# Altium integrated library Analog Devices Data Converters Digital-to-Analog Converters.IntLib: 2231 symbols (part 101 of 181)
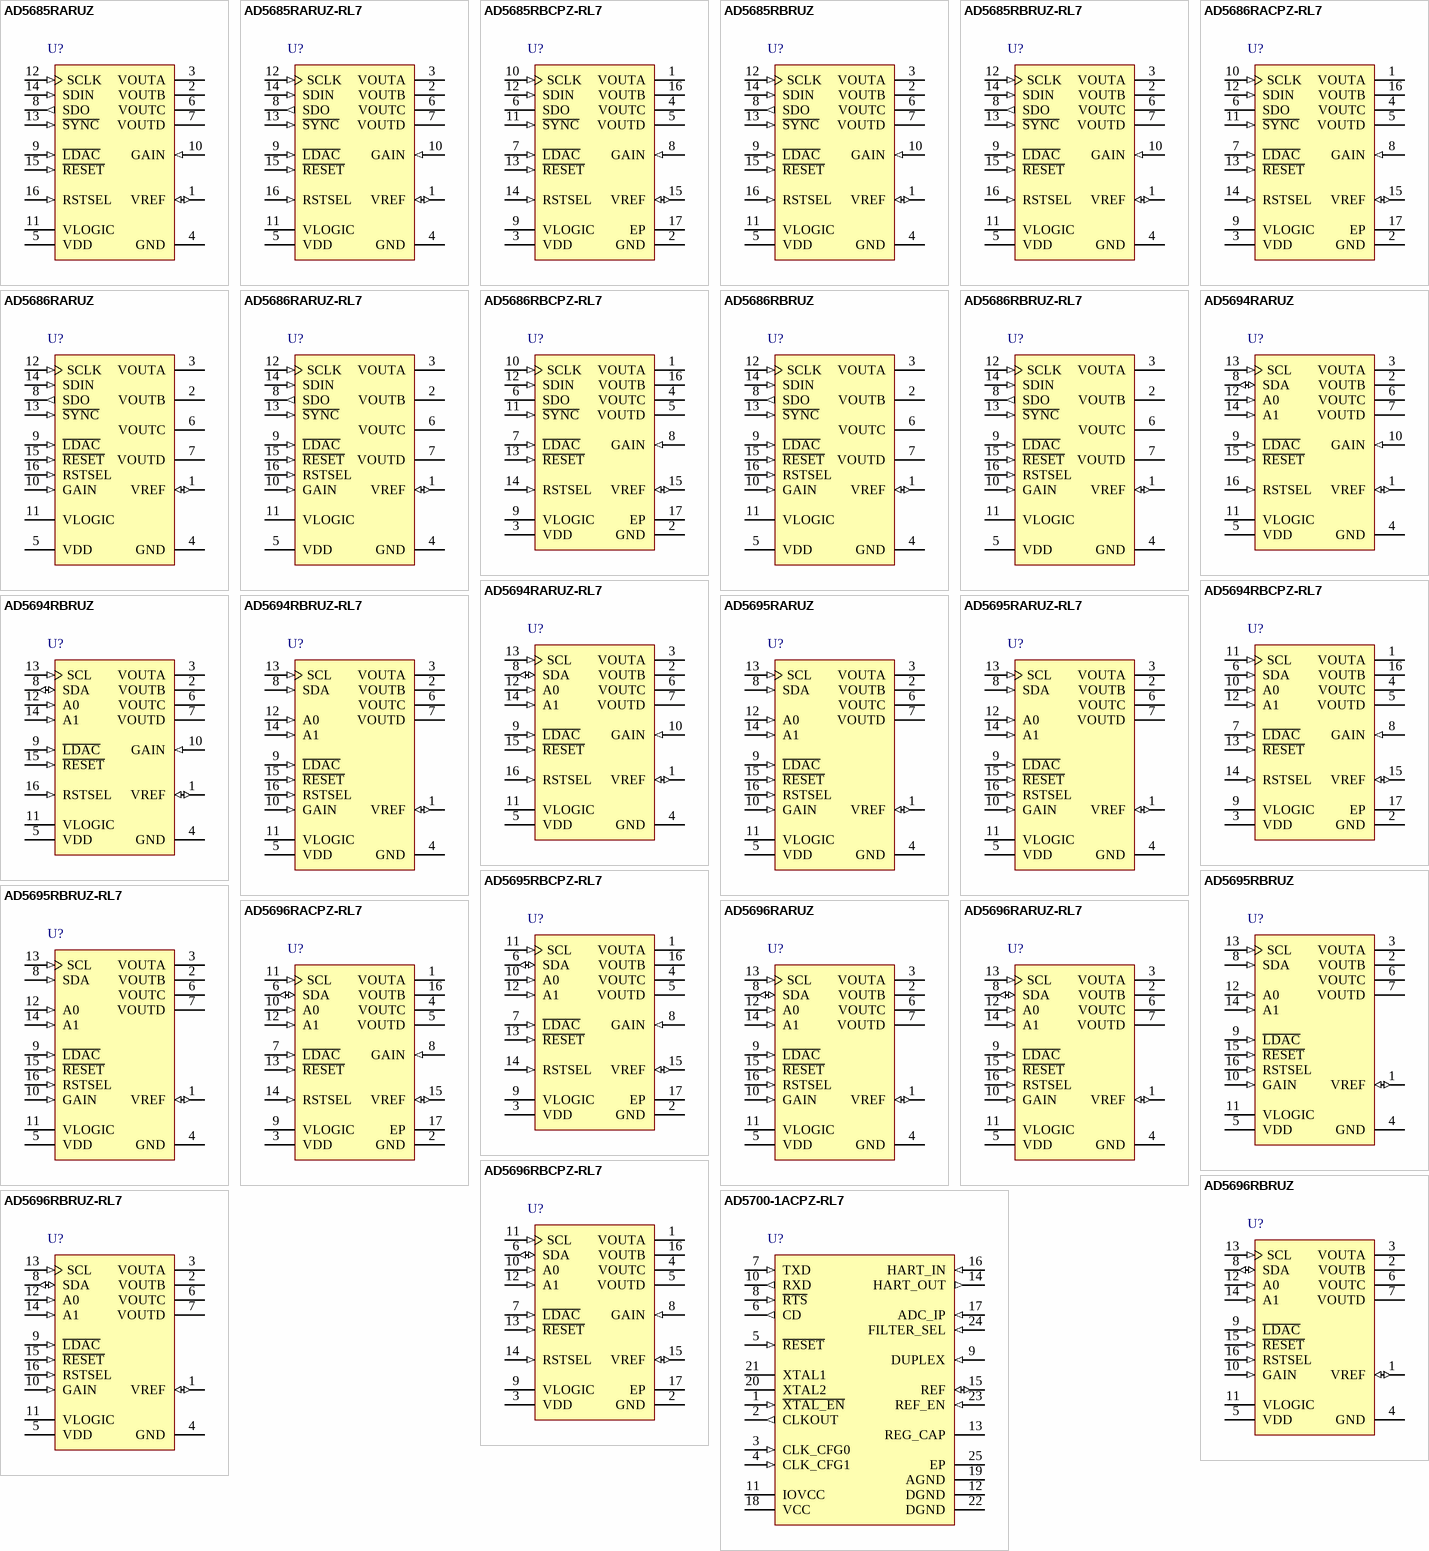
[diagram p214: symbols AD5685RARUZ to AD5700-1ACPZ-RL7]

## AD5696RBRUZ
designator U?
Quad 16-Bit nanoDAC+ with I2C Interface and 2 ppm/degC On-Chip Reference, -40 to +105 degC, RU-16, Pb-Free, Tube; Generic Part Number: AD5696R; Manufacturer: Analog Devices; PartNumber: AD5696RBRUZ; # DAC Outputs: 4; Max V+: 5.5V; Resolution (Bits): 16; Settling Time: 5µs; Single Supply: Yes; DatasheetVersion: Rev.0; PackageVersion: Nov-2002; PackageReference: RU-16; PackageDescription: 16-Lead Thin Shrink Small Outline Package [TSSOP]; Supplier 1: Digi-Key; Supplier Part Number 1: AD5696RBRUZ-ND; Supplier 2: Farnell; Supplier Part Number 2: 2112669; Supplier 3: Newark; Supplier Part Number 3: 94T0052; Supplier 4: Mouser; Supplier Part Number 4: 584-AD5696RBRUZ; Packing: Tube; RoHS: Y; Mounting Technology: Surface Mount; Code_JEDEC: MO-153-AB; ComponentLink1Description: Manufacturer URL; ComponentLink1URL: http://www.analog.com/en/index.html; ComponentLink2Description: Datasheet; ComponentLink2URL: http://www.analog.com/static/imported-files/data_sheets/AD5696R_AD5695R_AD5694R.pdf; ComponentLink3Description: Package Specification; ComponentLink3URL: http://www.analog.com/static/imported-files/packages/36244347913743854010197452789RU16.pdf; ComponentLink4Description: Product URL; ComponentLink4URL: http://www.analog.com/en/digital-to-analog-converters/da-converters/ad5696r/products/product.html
footprint RU-16_N (TSOP, 16-Leads, Body 5x4.4mm, Pitch 0.65mm, IPC Medium Density)
footprint RU-16_L (TSOP, 16-Leads, Body 5x4.4mm, Pitch 0.65mm, IPC High Density)
footprint RU-16_M (TSOP, 16-Leads, Body 5x4.4mm, Pitch 0.65mm, IPC Low Density)
pins: 1 VREF (io) "Reference Voltage. The AD5696R have a common reference pin. When using the internal reference, this is the reference output pin. When using an external reference, this is the reference input pin. The default for this pin is (See Datasheet)", 2 VOUTB (hiz) "Analog Output Voltage from DAC B. The output amplifier has rail-to-rail operation.", 3 VOUTA (hiz) "Analog Output Voltage from DAC A. The output amplifier has rail-to-rail operation.", 4 GND (power) "Ground Reference Point for All Circuitry on the Part.", 5 VDD (power) "Power Supply Input. These parts can be operated from 2.7 V to 5.5 V, and the supply should be decoupled with a 10 uF capacitor in parallel with a 0.1 uF capacitor to GND.", 6 VOUTC (hiz) "Analog Output Voltage from DAC C. The output amplifier has rail-to-rail operation.", 7 VOUTD (hiz) "Analog Output Voltage from DAC D. The output amplifier has rail-to-rail operation.", 8 SDA (io) "Serial Data Input. This pin is used in conjunction with the SCL line to clock data into or out of the 24-bit input shift register. SDA is a bidirectional, open-drain data line that should be pulled to the supply with an (See Datasheet)", 9 ~{LDAC} (in) "L\D\A\C\ can be operated in two modes, asynchronously and synchronously. Pulsing this pin low allows any or all DAC registers to be updated if the input registers have new data. This allows all DAC outputs to simultaneously (See Datasheet)", 10 GAIN (in) "Span Set Pin. When this pin is tied to GND, all four DAC outputs have a span from 0 V to VREF. If this pin is tied to VDD, all four DACs output a span of 0 V to 2 x VREF.", 11 VLOGIC (power) "Digital Power Supply. Voltage ranges from 1.8 V to 5.5 V.", 12 A0 (in) "Address Input. Sets the first LSB of the 7-bit slave address.", 13 SCL (in) "Serial Clock Line. This is used in conjunction with the SDA line to clock data into or out of the 24-bit input register.", 14 A1 (in) "Address Input. Sets the second LSB of the 7-bit slave address.", 15 ~{RESET} (in) "Asynchronous Reset Input. The R\E\S\E\T\ input is falling edge sensitive. When R\E\S\E\T\ is low, all L\D\A\C\ pulses are ignored. When R\E\S\E\T\ is activated, the input register and the DAC register are updated with zero (See Datasheet)", 16 RSTSEL (in) "Power-On Reset Pin. Tying this pin to GND powers up all four DACs to zero scale. Tying this pin to VDD powers up all four DACs to midscale."

## AD5696RBRUZ-RL7
designator U?
Quad 16-Bit nanoDAC+ with I2C Interface and 2 ppm/degC On-Chip Reference, -40 to +105 degC, RU-16, Pb-Free, Reel; Generic Part Number: AD5696R; Manufacturer: Analog Devices; PartNumber: AD5696RBRUZ-RL7; # DAC Outputs: 4; Max V+: 5.5V; Resolution (Bits): 16; Settling Time: 5µs; Single Supply: Yes; DatasheetVersion: Rev.0; PackageVersion: Nov-2002; PackageReference: RU-16; PackageDescription: 16-Lead Thin Shrink Small Outline Package [TSSOP]; Supplier 1: Digi-Key; Supplier Part Number 1: AD5696RBRUZ-RL7-ND; Supplier 2: Mouser; Supplier Part Number 2: 584-AD5696RBRUZ-R7; Packing: Reel; RoHS: Y; Mounting Technology: Surface Mount; Code_JEDEC: MO-153-AB; ComponentLink1Description: Manufacturer URL; ComponentLink1URL: http://www.analog.com/en/index.html; ComponentLink2Description: Datasheet; ComponentLink2URL: http://www.analog.com/static/imported-files/data_sheets/AD5696R_AD5695R_AD5694R.pdf; ComponentLink3Description: Package Specification; ComponentLink3URL: http://www.analog.com/static/imported-files/packages/36244347913743854010197452789RU16.pdf; ComponentLink4Description: Product URL; ComponentLink4URL: http://www.analog.com/en/digital-to-analog-converters/da-converters/ad5696r/products/product.html
footprint RU-16_N (TSOP, 16-Leads, Body 5x4.4mm, Pitch 0.65mm, IPC Medium Density)
footprint RU-16_L (TSOP, 16-Leads, Body 5x4.4mm, Pitch 0.65mm, IPC High Density)
footprint RU-16_M (TSOP, 16-Leads, Body 5x4.4mm, Pitch 0.65mm, IPC Low Density)
pins: 1 VREF (io) "Reference Voltage. The AD5696R have a common reference pin. When using the internal reference, this is the reference output pin. When using an external reference, this is the reference input pin. The default for this pin is (See Datasheet)", 2 VOUTB (hiz) "Analog Output Voltage from DAC B. The output amplifier has rail-to-rail operation.", 3 VOUTA (hiz) "Analog Output Voltage from DAC A. The output amplifier has rail-to-rail operation.", 4 GND (power) "Ground Reference Point for All Circuitry on the Part.", 5 VDD (power) "Power Supply Input. These parts can be operated from 2.7 V to 5.5 V, and the supply should be decoupled with a 10 uF capacitor in parallel with a 0.1 uF capacitor to GND.", 6 VOUTC (hiz) "Analog Output Voltage from DAC C. The output amplifier has rail-to-rail operation.", 7 VOUTD (hiz) "Analog Output Voltage from DAC D. The output amplifier has rail-to-rail operation.", 8 SDA (io) "Serial Data Input. This pin is used in conjunction with the SCL line to clock data into or out of the 24-bit input shift register. SDA is a bidirectional, open-drain data line that should be pulled to the supply with an (See Datasheet)", 9 ~{LDAC} (in) "L\D\A\C\ can be operated in two modes, asynchronously and synchronously. Pulsing this pin low allows any or all DAC registers to be updated if the input registers have new data. This allows all DAC outputs to simultaneously (See Datasheet)", 10 GAIN (in) "Span Set Pin. When this pin is tied to GND, all four DAC outputs have a span from 0 V to VREF. If this pin is tied to VDD, all four DACs output a span of 0 V to 2 x VREF.", 11 VLOGIC (power) "Digital Power Supply. Voltage ranges from 1.8 V to 5.5 V.", 12 A0 (in) "Address Input. Sets the first LSB of the 7-bit slave address.", 13 SCL (in) "Serial Clock Line. This is used in conjunction with the SDA line to clock data into or out of the 24-bit input register.", 14 A1 (in) "Address Input. Sets the second LSB of the 7-bit slave address.", 15 ~{RESET} (in) "Asynchronous Reset Input. The R\E\S\E\T\ input is falling edge sensitive. When R\E\S\E\T\ is low, all L\D\A\C\ pulses are ignored. When R\E\S\E\T\ is activated, the input register and the DAC register are updated with zero (See Datasheet)", 16 RSTSEL (in) "Power-On Reset Pin. Tying this pin to GND powers up all four DACs to zero scale. Tying this pin to VDD powers up all four DACs to midscale."

## AD5700-1ACPZ-RL7
designator U?
Low Power HART Modem, -40 to +125 degC, CP-24-10, Pb-Free, Reel; Generic Part Number: AD5700-1; Manufacturer: Analog Devices; PartNumber: AD5700-1ACPZ-RL7; DatasheetVersion: Rev.A; PackageVersion: 072809A; PackageReference: CP-24-10; PackageDescription: 24-Lead Lead Frame Chip Scale Package [LFCSP_WQ] 4 x 4 mm Body, Very Very Thin Quad; Supplier 1: Digi-Key; Supplier Part Number 1: AD5700-1ACPZ-RL7TR-ND; Supplier 2: Digi-Key; Supplier Part Number 2: AD5700-1ACPZ-RL7CT-ND; Supplier 3: Digi-Key; Supplier Part Number 3: AD5700-1ACPZ-RL7DKR-ND; Supplier 4: Farnell; Supplier Part Number 4: 2084459; Supplier 5: Newark; Supplier Part Number 5: 92T3222; Supplier 6: Newark; Supplier Part Number 6: 90T1364; Supplier 7: Mouser; Supplier Part Number 7: 584-AD5700-1ACPZ-R7; Packing: Reel; RoHS: Y; Mounting Technology: Surface Mount; Code_JEDEC: MO-220-WGGD-8.; ComponentLink1Description: Manufacturer URL; ComponentLink1URL: http://www.analog.com/en/index.html; ComponentLink2Description: Datasheet; ComponentLink2URL: http://www.analog.com/static/imported-files/data_sheets/AD5700_5700-1.pdf; ComponentLink3Description: Package Specification; ComponentLink3URL: http://www.analog.com/static/imported-files/packages/PKG_PDF/LFCSP(CP)/CP_24_10.pdf; ComponentLink4Description: Product URL; ComponentLink4URL: http://search.analog.com/search/ProductSearch.aspx?query=ad5700-1&locale=en
footprint CP-24-10_N (QFN, 24-Leads, Body 4x4mm, Pitch 0.5mm, Thermal Pad 2.1x2.1mm, IPC Medium Density)
footprint CP-24-10_L (QFN, 24-Leads, Body 4x4mm, Pitch 0.5mm, Thermal Pad 2.1x2.1mm, IPC High Density)
footprint CP-24-10_M (QFN, 24-Leads, Body 4x4mm, Pitch 0.5mm, Thermal Pad 2.1x2.1mm, IPC Low Density)
pins: 1 ~{XTAL_EN} (in) "Crystal Oscillator Circuit Enable. A low state enables the crystal oscillator circuit, and an external crystal is required. A high state disables the crystal oscillator circuit, and an external clock source or the internal (See Datasheet)", 2 CLKOUT (out) "Clock Output. If using the crystal oscillator or the internal RC oscillator, a clock output can be configured at the CLKOUT pin. Enabling the clock output consumes extra current to drive the load on this pin. See the CLKOUT (See Datasheet)", 3 CLK_CFG0 (in) "Clock Configuration Control. See Table 7.", 4 CLK_CFG1 (in) "Clock Configuration Control. See Table 7.", 5 ~{RESET} (in) "Active Low Digital Input. Holding R\E\S\E\T\ low places the AD5700-1 in power-down mode. A high state on R\E\S\E\T\ returns the AD5700-1 to their power-on state. If not using this pin, tie this pin to IOVCC.", 6 CD (out) "Carrier Detect--Digital Output. A high on CD indicates a valid carrier is detected.", 7 TXD (in) "Transmit Data--Digital Input. Data input to the modulator.", 8 ~{RTS} (in) "Request to Send--Digital Input. A high state enables the demodulator and disables the modulator. A low state enables the modulator and disables the demodulator.", 9 DUPLEX (in) "A high state on this pin enables full duplex operation. See the Theory of Operation section. A low state disables this feature.", 10 RXD (out) "Receive Data--UART Interface Digital Data Output. Data output from the demodulator is accessed on this pin.", 11 IOVCC (power) "Digital Interface Supply. Digital threshold levels are referenced to the voltage applied to this pin. The applied voltage can be in the range of 1.71 V to 5.5 V.", 12 DGND (power) "Digital Circuitry Ground Reference Connection. For typical operation, it is recommended to connect this pin to AGND.", 13 REG_CAP "Capacitor Connection for Internal Voltage Regulator. Connect a 1 uF capacitor from this pin to ground.", 14 HART_OUT (out) "HART FSK Signal Output. See the FSK Modulator section and Figure 26 for typical connections.", 15 REF (io) "Internal Reference Voltage Output, or External 2.5 V Reference Voltage Input. Connect a 1 uF capacitor from this pin to ground. When supplying an external reference, the VCC supply requires a minimum voltage of 2.7 V.", 16 HART_IN (in) "HART FSK Signal. When using the internal filter, couple the HART input signal into this pin using a 2.2 nF series capacitor. If using an external band-pass filter as shown in Figure 21, do not connect to this pin.", 17 ADC_IP (in) "If using the internal band-pass filter, connect 680 pF to this pin. Alternatively, this pin allows direct connection to the ADC input, in which case an external band-pass filter network must be used, as shown in Figure 21.", 18 VCC (power) "Power Supply Input. 2 V to 5.5 V can be applied to this pin. VCC should be decoupled to ground with low ESR 10 uF and 0.1 uF capacitors (see the Supply Decoupling section).", 19 AGND (power) "Analog Circuitry Ground Reference Connection.", 20 XTAL2 "Connection for External 3.6864 MHz Crystal. Do not connect to this pin if using the internal RC oscillator (AD5700-1 only) or an external clock source.", 21 XTAL1 "Connection for External 3.6864 MHz Crystal or External Clock Source Input. Tie this pin to ground if using the internal RC oscillator (AD5700-1 only).", 22 DGND (power) "Digital Circuitry Ground Reference Connection. For typical operation, it is recommended to connect this pin to", 23 REF_EN (in) "Reference Enable. A high state enables the internal 1.5 V reference and buffer. A low state disables the internal reference and input buffer, and a buffered external 2.5 V reference source must be applied at REF. If REF_EN (See Datasheet)", 24 FILTER_SEL (in) "Band-Pass Filter Select. A high state enables the internal filter and the HART signal should be applied to the HART_IN pin. A low state disables the internal filter and an external band-pass filter must then be connected at (See Datasheet)", 25 EP (power) "Analog Ground Reference Connection. For typical operation, it is recommended to connect this pin to AGND."

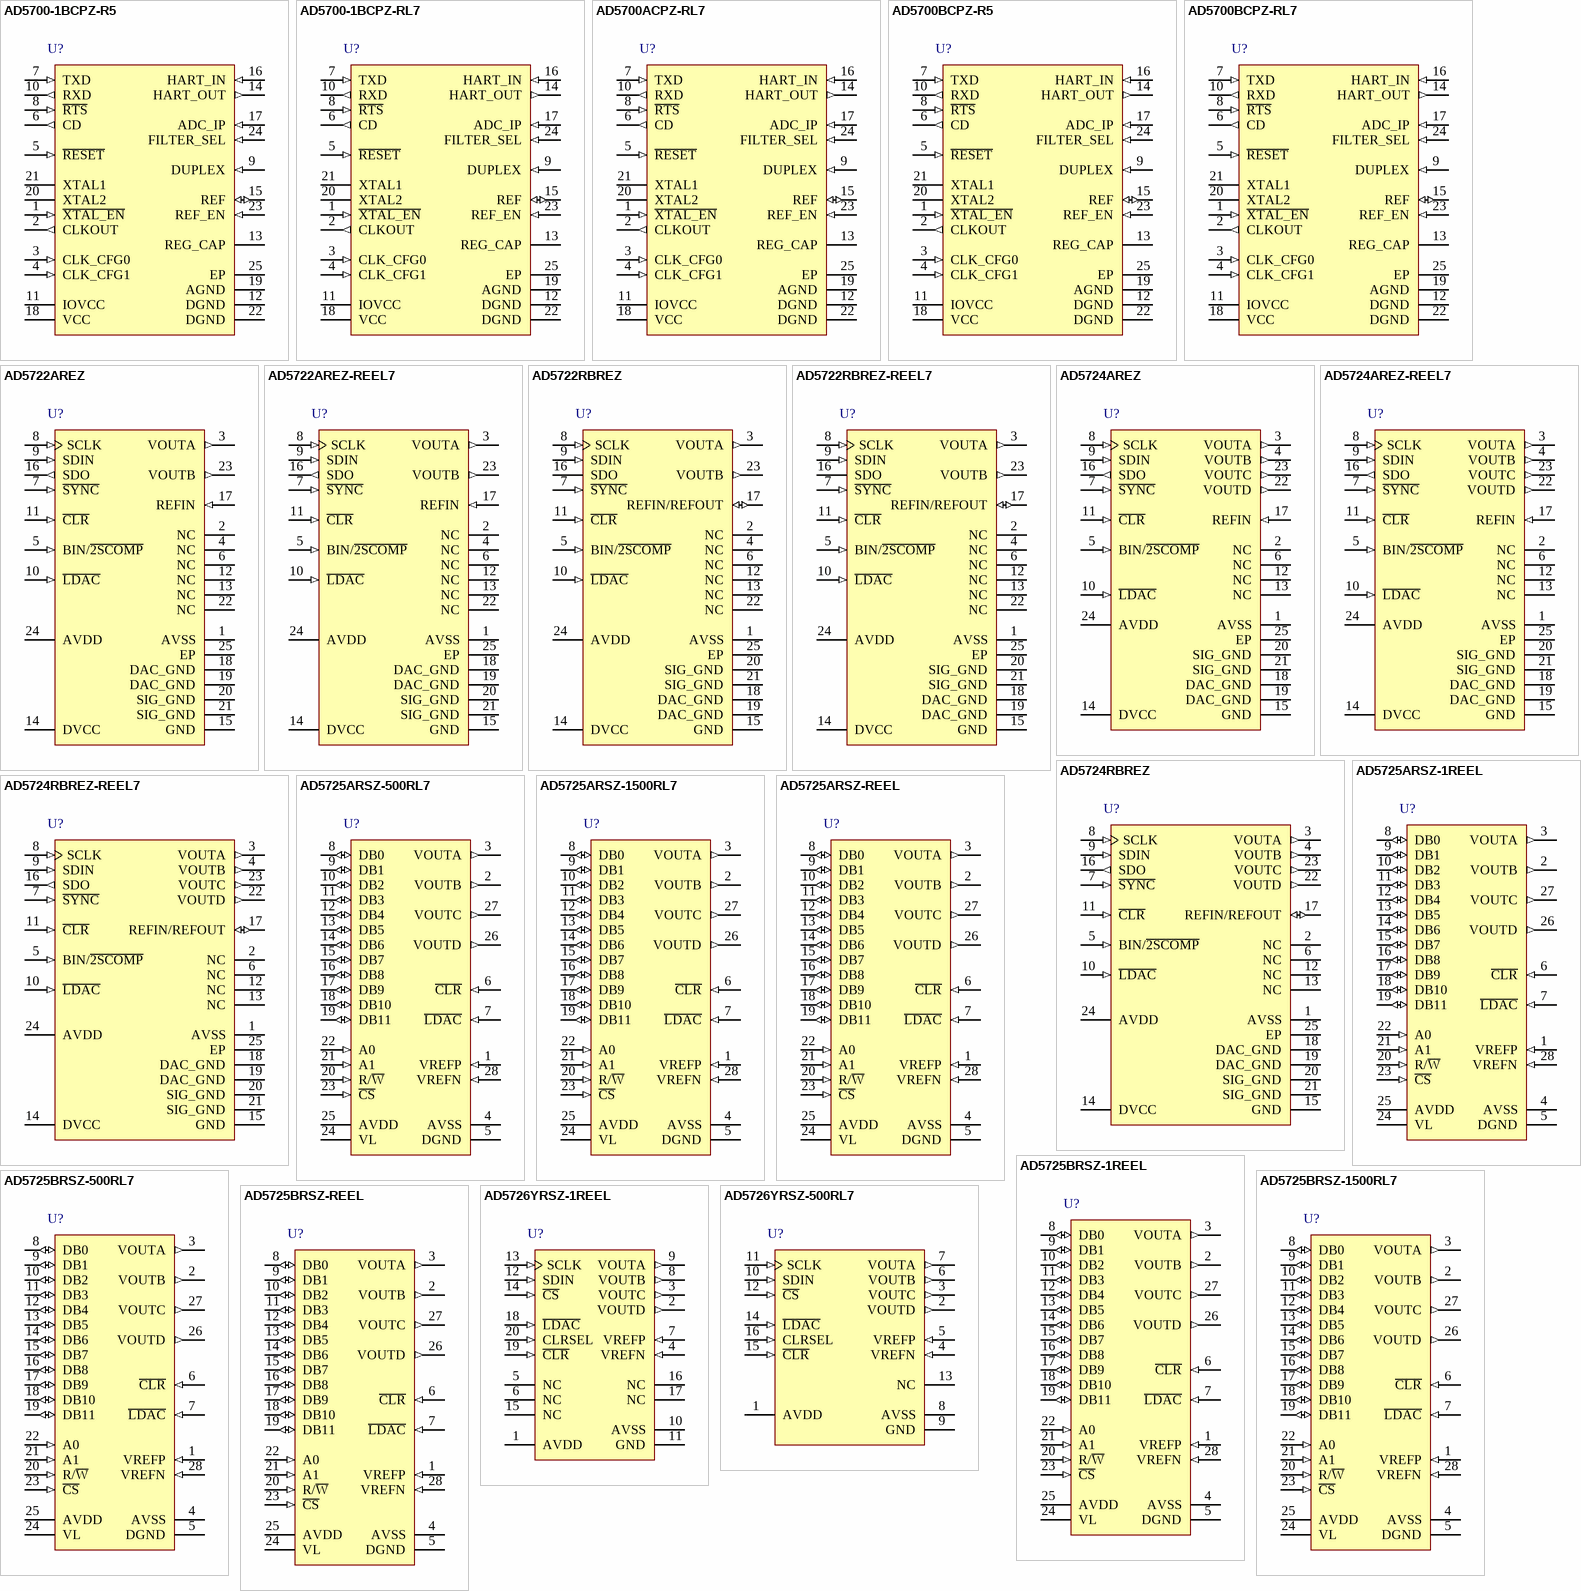
[diagram p53: symbols AD5700-1BCPZ-R5 to AD5726YRSZ-500RL7]

## AD5700-1BCPZ-R5
designator U?
Low Power HART Modem, -40 to +125 degC, CP-24-10, Pb-Free, Reel; Generic Part Number: AD5700-1; Manufacturer: Analog Devices; PartNumber: AD5700-1BCPZ-R5; DatasheetVersion: Rev.A; PackageVersion: 072809A; PackageReference: CP-24-10; PackageDescription: 24-Lead Lead Frame Chip Scale Package [LFCSP_WQ] 4 x 4 mm Body, Very Very Thin Quad; Supplier 1: Digi-Key; Supplier Part Number 1: AD5700-1BCPZ-R5TR-ND; Supplier 2: Digi-Key; Supplier Part Number 2: AD5700-1BCPZ-R5CT-ND; Supplier 3: Digi-Key; Supplier Part Number 3: AD5700-1BCPZ-R5DKR-ND; Supplier 4: Farnell; Supplier Part Number 4: 2084460; Supplier 5: Farnell; Supplier Part Number 5: 2372146; Supplier 6: Newark; Supplier Part Number 6: 92T3223; Supplier 7: Newark; Supplier Part Number 7: 90T1366; Supplier 8: Mouser; Supplier Part Number 8: 584-AD5700-1BCPZ-R5; Packing: Reel; RoHS: Y; Mounting Technology: Surface Mount; Code_JEDEC: MO-220-WGGD-8.; ComponentLink1Description: Manufacturer URL; ComponentLink1URL: http://www.analog.com/en/index.html; ComponentLink2Description: Datasheet; ComponentLink2URL: http://www.analog.com/static/imported-files/data_sheets/AD5700_5700-1.pdf; ComponentLink3Description: Package Specification; ComponentLink3URL: http://www.analog.com/static/imported-files/packages/PKG_PDF/LFCSP(CP)/CP_24_10.pdf; ComponentLink4Description: Product URL; ComponentLink4URL: http://search.analog.com/search/ProductSearch.aspx?query=ad5700-1&locale=en
footprint CP-24-10_N (QFN, 24-Leads, Body 4x4mm, Pitch 0.5mm, Thermal Pad 2.1x2.1mm, IPC Medium Density)
footprint CP-24-10_L (QFN, 24-Leads, Body 4x4mm, Pitch 0.5mm, Thermal Pad 2.1x2.1mm, IPC High Density)
footprint CP-24-10_M (QFN, 24-Leads, Body 4x4mm, Pitch 0.5mm, Thermal Pad 2.1x2.1mm, IPC Low Density)
pins: 1 ~{XTAL_EN} (in) "Crystal Oscillator Circuit Enable. A low state enables the crystal oscillator circuit, and an external crystal is required. A high state disables the crystal oscillator circuit, and an external clock source or the internal (See Datasheet)", 2 CLKOUT (out) "Clock Output. If using the crystal oscillator or the internal RC oscillator, a clock output can be configured at the CLKOUT pin. Enabling the clock output consumes extra current to drive the load on this pin. See the CLKOUT (See Datasheet)", 3 CLK_CFG0 (in) "Clock Configuration Control. See Table 7.", 4 CLK_CFG1 (in) "Clock Configuration Control. See Table 7.", 5 ~{RESET} (in) "Active Low Digital Input. Holding R\E\S\E\T\ low places the AD5700-1 in power-down mode. A high state on R\E\S\E\T\ returns the AD5700-1 to their power-on state. If not using this pin, tie this pin to IOVCC.", 6 CD (out) "Carrier Detect--Digital Output. A high on CD indicates a valid carrier is detected.", 7 TXD (in) "Transmit Data--Digital Input. Data input to the modulator.", 8 ~{RTS} (in) "Request to Send--Digital Input. A high state enables the demodulator and disables the modulator. A low state enables the modulator and disables the demodulator.", 9 DUPLEX (in) "A high state on this pin enables full duplex operation. See the Theory of Operation section. A low state disables this feature.", 10 RXD (out) "Receive Data--UART Interface Digital Data Output. Data output from the demodulator is accessed on this pin.", 11 IOVCC (power) "Digital Interface Supply. Digital threshold levels are referenced to the voltage applied to this pin. The applied voltage can be in the range of 1.71 V to 5.5 V.", 12 DGND (power) "Digital Circuitry Ground Reference Connection. For typical operation, it is recommended to connect this pin to AGND.", 13 REG_CAP "Capacitor Connection for Internal Voltage Regulator. Connect a 1 uF capacitor from this pin to ground.", 14 HART_OUT (out) "HART FSK Signal Output. See the FSK Modulator section and Figure 26 for typical connections.", 15 REF (io) "Internal Reference Voltage Output, or External 2.5 V Reference Voltage Input. Connect a 1 uF capacitor from this pin to ground. When supplying an external reference, the VCC supply requires a minimum voltage of 2.7 V.", 16 HART_IN (in) "HART FSK Signal. When using the internal filter, couple the HART input signal into this pin using a 2.2 nF series capacitor. If using an external band-pass filter as shown in Figure 21, do not connect to this pin.", 17 ADC_IP (in) "If using the internal band-pass filter, connect 680 pF to this pin. Alternatively, this pin allows direct connection to the ADC input, in which case an external band-pass filter network must be used, as shown in Figure 21.", 18 VCC (power) "Power Supply Input. 2 V to 5.5 V can be applied to this pin. VCC should be decoupled to ground with low ESR 10 uF and 0.1 uF capacitors (see the Supply Decoupling section).", 19 AGND (power) "Analog Circuitry Ground Reference Connection.", 20 XTAL2 "Connection for External 3.6864 MHz Crystal. Do not connect to this pin if using the internal RC oscillator (AD5700-1 only) or an external clock source.", 21 XTAL1 "Connection for External 3.6864 MHz Crystal or External Clock Source Input. Tie this pin to ground if using the internal RC oscillator (AD5700-1 only).", 22 DGND (power) "Digital Circuitry Ground Reference Connection. For typical operation, it is recommended to connect this pin to", 23 REF_EN (in) "Reference Enable. A high state enables the internal 1.5 V reference and buffer. A low state disables the internal reference and input buffer, and a buffered external 2.5 V reference source must be applied at REF. If REF_EN (See Datasheet)", 24 FILTER_SEL (in) "Band-Pass Filter Select. A high state enables the internal filter and the HART signal should be applied to the HART_IN pin. A low state disables the internal filter and an external band-pass filter must then be connected at (See Datasheet)", 25 EP (power) "Analog Ground Reference Connection. For typical operation, it is recommended to connect this pin to AGND."

## AD5700-1BCPZ-RL7
designator U?
Low Power HART Modem, -40 to +125 degC, CP-24-10, Pb-Free, Reel; Generic Part Number: AD5700-1; Manufacturer: Analog Devices; PartNumber: AD5700-1BCPZ-RL7; DatasheetVersion: Rev.A; PackageVersion: 072809A; PackageReference: CP-24-10; PackageDescription: 24-Lead Lead Frame Chip Scale Package [LFCSP_WQ] 4 x 4 mm Body, Very Very Thin Quad; Supplier 1: Digi-Key; Supplier Part Number 1: AD5700-1BCPZ-RL7TR-ND; Supplier 2: Digi-Key; Supplier Part Number 2: AD5700-1BCPZ-RL7CT-ND; Supplier 3: Digi-Key; Supplier Part Number 3: AD5700-1BCPZ-RL7DKR-ND; Supplier 4: Mouser; Supplier Part Number 4: 584-AD5700-1BCPZ-R7; Packing: Reel; RoHS: Y; Mounting Technology: Surface Mount; Code_JEDEC: MO-220-WGGD-8.; ComponentLink1Description: Manufacturer URL; ComponentLink1URL: http://www.analog.com/en/index.html; ComponentLink2Description: Datasheet; ComponentLink2URL: http://www.analog.com/static/imported-files/data_sheets/AD5700_5700-1.pdf; ComponentLink3Description: Package Specification; ComponentLink3URL: http://www.analog.com/static/imported-files/packages/PKG_PDF/LFCSP(CP)/CP_24_10.pdf; ComponentLink4Description: Product URL; ComponentLink4URL: http://search.analog.com/search/ProductSearch.aspx?query=ad5700-1&locale=en
footprint CP-24-10_N (QFN, 24-Leads, Body 4x4mm, Pitch 0.5mm, Thermal Pad 2.1x2.1mm, IPC Medium Density)
footprint CP-24-10_L (QFN, 24-Leads, Body 4x4mm, Pitch 0.5mm, Thermal Pad 2.1x2.1mm, IPC High Density)
footprint CP-24-10_M (QFN, 24-Leads, Body 4x4mm, Pitch 0.5mm, Thermal Pad 2.1x2.1mm, IPC Low Density)
pins: 1 ~{XTAL_EN} (in) "Crystal Oscillator Circuit Enable. A low state enables the crystal oscillator circuit, and an external crystal is required. A high state disables the crystal oscillator circuit, and an external clock source or the internal (See Datasheet)", 2 CLKOUT (out) "Clock Output. If using the crystal oscillator or the internal RC oscillator, a clock output can be configured at the CLKOUT pin. Enabling the clock output consumes extra current to drive the load on this pin. See the CLKOUT (See Datasheet)", 3 CLK_CFG0 (in) "Clock Configuration Control. See Table 7.", 4 CLK_CFG1 (in) "Clock Configuration Control. See Table 7.", 5 ~{RESET} (in) "Active Low Digital Input. Holding R\E\S\E\T\ low places the AD5700-1 in power-down mode. A high state on R\E\S\E\T\ returns the AD5700-1 to their power-on state. If not using this pin, tie this pin to IOVCC.", 6 CD (out) "Carrier Detect--Digital Output. A high on CD indicates a valid carrier is detected.", 7 TXD (in) "Transmit Data--Digital Input. Data input to the modulator.", 8 ~{RTS} (in) "Request to Send--Digital Input. A high state enables the demodulator and disables the modulator. A low state enables the modulator and disables the demodulator.", 9 DUPLEX (in) "A high state on this pin enables full duplex operation. See the Theory of Operation section. A low state disables this feature.", 10 RXD (out) "Receive Data--UART Interface Digital Data Output. Data output from the demodulator is accessed on this pin.", 11 IOVCC (power) "Digital Interface Supply. Digital threshold levels are referenced to the voltage applied to this pin. The applied voltage can be in the range of 1.71 V to 5.5 V.", 12 DGND (power) "Digital Circuitry Ground Reference Connection. For typical operation, it is recommended to connect this pin to AGND.", 13 REG_CAP "Capacitor Connection for Internal Voltage Regulator. Connect a 1 uF capacitor from this pin to ground.", 14 HART_OUT (out) "HART FSK Signal Output. See the FSK Modulator section and Figure 26 for typical connections.", 15 REF (io) "Internal Reference Voltage Output, or External 2.5 V Reference Voltage Input. Connect a 1 uF capacitor from this pin to ground. When supplying an external reference, the VCC supply requires a minimum voltage of 2.7 V.", 16 HART_IN (in) "HART FSK Signal. When using the internal filter, couple the HART input signal into this pin using a 2.2 nF series capacitor. If using an external band-pass filter as shown in Figure 21, do not connect to this pin.", 17 ADC_IP (in) "If using the internal band-pass filter, connect 680 pF to this pin. Alternatively, this pin allows direct connection to the ADC input, in which case an external band-pass filter network must be used, as shown in Figure 21.", 18 VCC (power) "Power Supply Input. 2 V to 5.5 V can be applied to this pin. VCC should be decoupled to ground with low ESR 10 uF and 0.1 uF capacitors (see the Supply Decoupling section).", 19 AGND (power) "Analog Circuitry Ground Reference Connection.", 20 XTAL2 "Connection for External 3.6864 MHz Crystal. Do not connect to this pin if using the internal RC oscillator (AD5700-1 only) or an external clock source.", 21 XTAL1 "Connection for External 3.6864 MHz Crystal or External Clock Source Input. Tie this pin to ground if using the internal RC oscillator (AD5700-1 only).", 22 DGND (power) "Digital Circuitry Ground Reference Connection. For typical operation, it is recommended to connect this pin to", 23 REF_EN (in) "Reference Enable. A high state enables the internal 1.5 V reference and buffer. A low state disables the internal reference and input buffer, and a buffered external 2.5 V reference source must be applied at REF. If REF_EN (See Datasheet)", 24 FILTER_SEL (in) "Band-Pass Filter Select. A high state enables the internal filter and the HART signal should be applied to the HART_IN pin. A low state disables the internal filter and an external band-pass filter must then be connected at (See Datasheet)", 25 EP (power) "Analog Ground Reference Connection. For typical operation, it is recommended to connect this pin to AGND."

## AD5700ACPZ-RL7
designator U?
Low Power HART Modem, -40 to +125 degC, CP-24-10, Pb-Free, Reel; Generic Part Number: AD5700; Manufacturer: Analog Devices; PartNumber: AD5700ACPZ-RL7; DatasheetVersion: Rev.A; PackageVersion: 072809A; PackageReference: CP-24-10; PackageDescription: 24-Lead Lead Frame Chip Scale Package [LFCSP_WQ] 4 x 4 mm Body, Very Very Thin Quad; Supplier 1: Digi-Key; Supplier Part Number 1: AD5700ACPZ-RL7TR-ND; Supplier 2: Digi-Key; Supplier Part Number 2: AD5700ACPZ-RL7CT-ND; Supplier 3: Digi-Key; Supplier Part Number 3: AD5700ACPZ-RL7DKR-ND; Supplier 4: Newark; Supplier Part Number 4: 90T1367; Supplier 5: Mouser; Supplier Part Number 5: 584-AD5700ACPZ-R7; Packing: Reel; RoHS: Y; Mounting Technology: Surface Mount; Code_JEDEC: MO-220-WGGD-8.; ComponentLink1Description: Manufacturer URL; ComponentLink1URL: http://www.analog.com/en/index.html; ComponentLink2Description: Datasheet; ComponentLink2URL: http://www.analog.com/static/imported-files/data_sheets/AD5700_5700-1.pdf; ComponentLink3Description: Package Specification; ComponentLink3URL: http://www.analog.com/static/imported-files/packages/PKG_PDF/LFCSP(CP)/CP_24_10.pdf; ComponentLink4Description: Product URL; ComponentLink4URL: http://search.analog.com/search/ProductSearch.aspx?query=ad5700&locale=en
footprint CP-24-10_N (QFN, 24-Leads, Body 4x4mm, Pitch 0.5mm, Thermal Pad 2.1x2.1mm, IPC Medium Density)
footprint CP-24-10_L (QFN, 24-Leads, Body 4x4mm, Pitch 0.5mm, Thermal Pad 2.1x2.1mm, IPC High Density)
footprint CP-24-10_M (QFN, 24-Leads, Body 4x4mm, Pitch 0.5mm, Thermal Pad 2.1x2.1mm, IPC Low Density)
pins: 1 ~{XTAL_EN} (in) "Crystal Oscillator Circuit Enable. A low state enables the crystal oscillator circuit, and an external crystal is required. A high state disables the crystal oscillator circuit, and an external clock source or the internal (See Datasheet)", 2 CLKOUT (out) "Clock Output. If using the crystal oscillator or the internal RC oscillator, a clock output can be configured at the CLKOUT pin. Enabling the clock output consumes extra current to drive the load on this pin. See the CLKOUT (See Datasheet)", 3 CLK_CFG0 (in) "Clock Configuration Control. See Table 7.", 4 CLK_CFG1 (in) "Clock Configuration Control. See Table 7.", 5 ~{RESET} (in) "Active Low Digital Input. Holding R\E\S\E\T\ low places the AD5700 in power-down mode. A high state on R\E\S\E\T\ returns the AD5700 to their power-on state. If not using this pin, tie this pin to IOVCC.", 6 CD (out) "Carrier Detect--Digital Output. A high on CD indicates a valid carrier is detected.", 7 TXD (in) "Transmit Data--Digital Input. Data input to the modulator.", 8 ~{RTS} (in) "Request to Send--Digital Input. A high state enables the demodulator and disables the modulator. A low state enables the modulator and disables the demodulator.", 9 DUPLEX (in) "A high state on this pin enables full duplex operation. See the Theory of Operation section. A low state disables this feature.", 10 RXD (out) "Receive Data--UART Interface Digital Data Output. Data output from the demodulator is accessed on this pin.", 11 IOVCC (power) "Digital Interface Supply. Digital threshold levels are referenced to the voltage applied to this pin. The applied voltage can be in the range of 1.71 V to 5.5 V.", 12 DGND (power) "Digital Circuitry Ground Reference Connection. For typical operation, it is recommended to connect this pin to AGND.", 13 REG_CAP "Capacitor Connection for Internal Voltage Regulator. Connect a 1 uF capacitor from this pin to ground.", 14 HART_OUT (out) "HART FSK Signal Output. See the FSK Modulator section and Figure 26 for typical connections.", 15 REF (io) "Internal Reference Voltage Output, or External 2.5 V Reference Voltage Input. Connect a 1 uF capacitor from this pin to ground. When supplying an external reference, the VCC supply requires a minimum voltage of 2.7 V.", 16 HART_IN (in) "HART FSK Signal. When using the internal filter, couple the HART input signal into this pin using a 2.2 nF series capacitor. If using an external band-pass filter as shown in Figure 21, do not connect to this pin.", 17 ADC_IP (in) "If using the internal band-pass filter, connect 680 pF to this pin. Alternatively, this pin allows direct connection to the ADC input, in which case an external band-pass filter network must be used, as shown in Figure 21.", 18 VCC (power) "Power Supply Input. 2 V to 5.5 V can be applied to this pin. VCC should be decoupled to ground with low ESR 10 uF and 0.1 uF capacitors (see the Supply Decoupling section).", 19 AGND (power) "Analog Circuitry Ground Reference Connection.", 20 XTAL2 "Connection for External 3.6864 MHz Crystal. Do not connect to this pin if using the internal RC oscillator AD5700-1 only) or an external clock source.", 21 XTAL1 "Connection for External 3.6864 MHz Crystal or External Clock Source Input. Tie this pin to ground if using the internal RC oscillator (AD5700-1 only).", 22 DGND (power) "Digital Circuitry Ground Reference Connection. For typical operation, it is recommended to connect this pin to AGND.", 23 REF_EN (in) "Reference Enable. A high state enables the internal 1.5 V reference and buffer. A low state disables the internal reference and input buffer, and a buffered external 2.5 V reference source must be applied at REF. If REF_EN (See Datasheet)", 24 FILTER_SEL (in) "Band-Pass Filter Select. A high state enables the internal filter and the HART signal should be applied to the HART_IN pin. A low state disables the internal filter and an external band-pass filter must then be connected at (See Datasheet)", 25 EP (power) "Analog Ground Reference Connection. For typical operation, it is recommended to connect this pin to AGND."

## AD5700BCPZ-R5
designator U?
Low Power HART Modem, -40 to +125 degC, CP-24-10, Pb-Free, Reel; Generic Part Number: AD5700; Manufacturer: Analog Devices; PartNumber: AD5700BCPZ-R5; DatasheetVersion: Rev.A; PackageVersion: 072809A; PackageReference: CP-24-10; PackageDescription: 24-Lead Lead Frame Chip Scale Package [LFCSP_WQ] 4 x 4 mm Body, Very Very Thin Quad; Supplier 1: Digi-Key; Supplier Part Number 1: AD5700BCPZ-R5TR-ND; Supplier 2: Digi-Key; Supplier Part Number 2: AD5700BCPZ-R5CT-ND; Supplier 3: Digi-Key; Supplier Part Number 3: AD5700BCPZ-R5DKR-ND; Supplier 4: Farnell; Supplier Part Number 4: 2084458; Supplier 5: Newark; Supplier Part Number 5: 90T1369; Supplier 6: Newark; Supplier Part Number 6: 92T3224; Supplier 7: Mouser; Supplier Part Number 7: 584-AD5700BCPZ-R5; Packing: Reel; RoHS: Y; Mounting Technology: Surface Mount; Code_JEDEC: MO-220-WGGD-8.; ComponentLink1Description: Manufacturer URL; ComponentLink1URL: http://www.analog.com/en/index.html; ComponentLink2Description: Datasheet; ComponentLink2URL: http://www.analog.com/static/imported-files/data_sheets/AD5700_5700-1.pdf; ComponentLink3Description: Package Specification; ComponentLink3URL: http://www.analog.com/static/imported-files/packages/PKG_PDF/LFCSP(CP)/CP_24_10.pdf; ComponentLink4Description: Product URL; ComponentLink4URL: http://search.analog.com/search/ProductSearch.aspx?query=ad5700&locale=en
footprint CP-24-10_N (QFN, 24-Leads, Body 4x4mm, Pitch 0.5mm, Thermal Pad 2.1x2.1mm, IPC Medium Density)
footprint CP-24-10_L (QFN, 24-Leads, Body 4x4mm, Pitch 0.5mm, Thermal Pad 2.1x2.1mm, IPC High Density)
footprint CP-24-10_M (QFN, 24-Leads, Body 4x4mm, Pitch 0.5mm, Thermal Pad 2.1x2.1mm, IPC Low Density)
pins: 1 ~{XTAL_EN} (in) "Crystal Oscillator Circuit Enable. A low state enables the crystal oscillator circuit, and an external crystal is required. A high state disables the crystal oscillator circuit, and an external clock source or the internal (See Datasheet)", 2 CLKOUT (out) "Clock Output. If using the crystal oscillator or the internal RC oscillator, a clock output can be configured at the CLKOUT pin. Enabling the clock output consumes extra current to drive the load on this pin. See the CLKOUT (See Datasheet)", 3 CLK_CFG0 (in) "Clock Configuration Control. See Table 7.", 4 CLK_CFG1 (in) "Clock Configuration Control. See Table 7.", 5 ~{RESET} (in) "Active Low Digital Input. Holding R\E\S\E\T\ low places the AD5700 in power-down mode. A high state on R\E\S\E\T\ returns the AD5700 to their power-on state. If not using this pin, tie this pin to IOVCC.", 6 CD (out) "Carrier Detect--Digital Output. A high on CD indicates a valid carrier is detected.", 7 TXD (in) "Transmit Data--Digital Input. Data input to the modulator.", 8 ~{RTS} (in) "Request to Send--Digital Input. A high state enables the demodulator and disables the modulator. A low state enables the modulator and disables the demodulator.", 9 DUPLEX (in) "A high state on this pin enables full duplex operation. See the Theory of Operation section. A low state disables this feature.", 10 RXD (out) "Receive Data--UART Interface Digital Data Output. Data output from the demodulator is accessed on this pin.", 11 IOVCC (power) "Digital Interface Supply. Digital threshold levels are referenced to the voltage applied to this pin. The applied voltage can be in the range of 1.71 V to 5.5 V.", 12 DGND (power) "Digital Circuitry Ground Reference Connection. For typical operation, it is recommended to connect this pin to AGND.", 13 REG_CAP "Capacitor Connection for Internal Voltage Regulator. Connect a 1 uF capacitor from this pin to ground.", 14 HART_OUT (out) "HART FSK Signal Output. See the FSK Modulator section and Figure 26 for typical connections.", 15 REF (io) "Internal Reference Voltage Output, or External 2.5 V Reference Voltage Input. Connect a 1 uF capacitor from this pin to ground. When supplying an external reference, the VCC supply requires a minimum voltage of 2.7 V.", 16 HART_IN (in) "HART FSK Signal. When using the internal filter, couple the HART input signal into this pin using a 2.2 nF series capacitor. If using an external band-pass filter as shown in Figure 21, do not connect to this pin.", 17 ADC_IP (in) "If using the internal band-pass filter, connect 680 pF to this pin. Alternatively, this pin allows direct connection to the ADC input, in which case an external band-pass filter network must be used, as shown in Figure 21.", 18 VCC (power) "Power Supply Input. 2 V to 5.5 V can be applied to this pin. VCC should be decoupled to ground with low ESR 10 uF and 0.1 uF capacitors (see the Supply Decoupling section).", 19 AGND (power) "Analog Circuitry Ground Reference Connection.", 20 XTAL2 "Connection for External 3.6864 MHz Crystal. Do not connect to this pin if using the internal RC oscillator AD5700-1 only) or an external clock source.", 21 XTAL1 "Connection for External 3.6864 MHz Crystal or External Clock Source Input. Tie this pin to ground if using the internal RC oscillator (AD5700-1 only).", 22 DGND (power) "Digital Circuitry Ground Reference Connection. For typical operation, it is recommended to connect this pin to AGND.", 23 REF_EN (in) "Reference Enable. A high state enables the internal 1.5 V reference and buffer. A low state disables the internal reference and input buffer, and a buffered external 2.5 V reference source must be applied at REF. If REF_EN (See Datasheet)", 24 FILTER_SEL (in) "Band-Pass Filter Select. A high state enables the internal filter and the HART signal should be applied to the HART_IN pin. A low state disables the internal filter and an external band-pass filter must then be connected at (See Datasheet)", 25 EP (power) "Analog Ground Reference Connection. For typical operation, it is recommended to connect this pin to AGND."

## AD5700BCPZ-RL7
designator U?
Low Power HART Modem, -40 to +125 degC, CP-24-10, Pb-Free, Reel; Generic Part Number: AD5700; Manufacturer: Analog Devices; PartNumber: AD5700BCPZ-RL7; DatasheetVersion: Rev.A; PackageVersion: 072809A; PackageReference: CP-24-10; PackageDescription: 24-Lead Lead Frame Chip Scale Package [LFCSP_WQ] 4 x 4 mm Body, Very Very Thin Quad; Supplier 1: Digi-Key; Supplier Part Number 1: AD5700BCPZ-RL7TR-ND; Supplier 2: Digi-Key; Supplier Part Number 2: AD5700BCPZ-RL7CT-ND; Supplier 3: Digi-Key; Supplier Part Number 3: AD5700BCPZ-RL7DKR-ND; Supplier 4: Newark; Supplier Part Number 4: 90T1368; Supplier 5: Mouser; Supplier Part Number 5: 584-AD5700BCPZ-R7; Packing: Reel; RoHS: Y; Mounting Technology: Surface Mount; Code_JEDEC: MO-220-WGGD-8.; ComponentLink1Description: Manufacturer URL; ComponentLink1URL: http://www.analog.com/en/index.html; ComponentLink2Description: Datasheet; ComponentLink2URL: http://www.analog.com/static/imported-files/data_sheets/AD5700_5700-1.pdf; ComponentLink3Description: Package Specification; ComponentLink3URL: http://www.analog.com/static/imported-files/packages/PKG_PDF/LFCSP(CP)/CP_24_10.pdf; ComponentLink4Description: Product URL; ComponentLink4URL: http://search.analog.com/search/ProductSearch.aspx?query=ad5700&locale=en
footprint CP-24-10_N (QFN, 24-Leads, Body 4x4mm, Pitch 0.5mm, Thermal Pad 2.1x2.1mm, IPC Medium Density)
footprint CP-24-10_L (QFN, 24-Leads, Body 4x4mm, Pitch 0.5mm, Thermal Pad 2.1x2.1mm, IPC High Density)
footprint CP-24-10_M (QFN, 24-Leads, Body 4x4mm, Pitch 0.5mm, Thermal Pad 2.1x2.1mm, IPC Low Density)
pins: 1 ~{XTAL_EN} (in) "Crystal Oscillator Circuit Enable. A low state enables the crystal oscillator circuit, and an external crystal is required. A high state disables the crystal oscillator circuit, and an external clock source or the internal (See Datasheet)", 2 CLKOUT (out) "Clock Output. If using the crystal oscillator or the internal RC oscillator, a clock output can be configured at the CLKOUT pin. Enabling the clock output consumes extra current to drive the load on this pin. See the CLKOUT (See Datasheet)", 3 CLK_CFG0 (in) "Clock Configuration Control. See Table 7.", 4 CLK_CFG1 (in) "Clock Configuration Control. See Table 7.", 5 ~{RESET} (in) "Active Low Digital Input. Holding R\E\S\E\T\ low places the AD5700 in power-down mode. A high state on R\E\S\E\T\ returns the AD5700 to their power-on state. If not using this pin, tie this pin to IOVCC.", 6 CD (out) "Carrier Detect--Digital Output. A high on CD indicates a valid carrier is detected.", 7 TXD (in) "Transmit Data--Digital Input. Data input to the modulator.", 8 ~{RTS} (in) "Request to Send--Digital Input. A high state enables the demodulator and disables the modulator. A low state enables the modulator and disables the demodulator.", 9 DUPLEX (in) "A high state on this pin enables full duplex operation. See the Theory of Operation section. A low state disables this feature.", 10 RXD (out) "Receive Data--UART Interface Digital Data Output. Data output from the demodulator is accessed on this pin.", 11 IOVCC (power) "Digital Interface Supply. Digital threshold levels are referenced to the voltage applied to this pin. The applied voltage can be in the range of 1.71 V to 5.5 V.", 12 DGND (power) "Digital Circuitry Ground Reference Connection. For typical operation, it is recommended to connect this pin to AGND.", 13 REG_CAP "Capacitor Connection for Internal Voltage Regulator. Connect a 1 uF capacitor from this pin to ground.", 14 HART_OUT (out) "HART FSK Signal Output. See the FSK Modulator section and Figure 26 for typical connections.", 15 REF (io) "Internal Reference Voltage Output, or External 2.5 V Reference Voltage Input. Connect a 1 uF capacitor from this pin to ground. When supplying an external reference, the VCC supply requires a minimum voltage of 2.7 V.", 16 HART_IN (in) "HART FSK Signal. When using the internal filter, couple the HART input signal into this pin using a 2.2 nF series capacitor. If using an external band-pass filter as shown in Figure 21, do not connect to this pin.", 17 ADC_IP (in) "If using the internal band-pass filter, connect 680 pF to this pin. Alternatively, this pin allows direct connection to the ADC input, in which case an external band-pass filter network must be used, as shown in Figure 21.", 18 VCC (power) "Power Supply Input. 2 V to 5.5 V can be applied to this pin. VCC should be decoupled to ground with low ESR 10 uF and 0.1 uF capacitors (see the Supply Decoupling section).", 19 AGND (power) "Analog Circuitry Ground Reference Connection.", 20 XTAL2 "Connection for External 3.6864 MHz Crystal. Do not connect to this pin if using the internal RC oscillator AD5700-1 only) or an external clock source.", 21 XTAL1 "Connection for External 3.6864 MHz Crystal or External Clock Source Input. Tie this pin to ground if using the internal RC oscillator (AD5700-1 only).", 22 DGND (power) "Digital Circuitry Ground Reference Connection. For typical operation, it is recommended to connect this pin to AGND.", 23 REF_EN (in) "Reference Enable. A high state enables the internal 1.5 V reference and buffer. A low state disables the internal reference and input buffer, and a buffered external 2.5 V reference source must be applied at REF. If REF_EN (See Datasheet)", 24 FILTER_SEL (in) "Band-Pass Filter Select. A high state enables the internal filter and the HART signal should be applied to the HART_IN pin. A low state disables the internal filter and an external band-pass filter must then be connected at (See Datasheet)", 25 EP (power) "Analog Ground Reference Connection. For typical operation, it is recommended to connect this pin to AGND."

## AD5722AREZ
designator U?
Dual 12-Bit Voltage Output Digital-to-Analog Converter with Serial Interface, -40 to +85 degC, RE-24, Pb-Free, Tube; Generic Part Number: AD5722; Manufacturer: Analog Devices; PartNumber: AD5722AREZ; # DAC Outputs: 2; Max V+: 16.5V; Op Pwr Diss: 190mW; Resolution (Bits): 12; Settling Time: 10µs; Single Supply: Yes; DatasheetVersion: Rev.D; PackageVersion: 050806-A; PackageReference: RE-24; PackageDescription: 24-Lead Thin Shrink Small Outline Package, Exposed Pad [TSSOP_EP]; Supplier 1: Digi-Key; Supplier Part Number 1: AD5722AREZ-ND; Supplier 2: Farnell; Supplier Part Number 2: 2312754; Supplier 3: Newark; Supplier Part Number 3: 34P3162; Supplier 4: Mouser; Supplier Part Number 4: 584-AD5722AREZ; Packing: Tube; RoHS: Y; Mounting Technology: Surface Mount; Code_JEDEC: MO-153-ADT; ComponentLink1Description: Manufacturer URL; ComponentLink1URL: http://www.analog.com/en/index.html; ComponentLink2Description: Datasheet; ComponentLink2URL: http://www.analog.com/static/imported-files/data_sheets/AD5722_5732_5752.pdf; ComponentLink3Description: Package Specification; ComponentLink3URL: http://www.analog.com/static/imported-files/packages/PKG_PDF/TSSOP_EP(RE)/RE_24.pdf; ComponentLink4Description: Product URL; ComponentLink4URL: http://www.analog.com/en/digital-to-analog-converters/da-converters/ad5722/products/product.html; ComponentLink5Description: Reference Design URL; ComponentLink5URL: http://www.analog.com/en/digital-to-analog-converters/da-converters/ad5722/products/product.html#prod_cross_sell
footprint RE-24_N (TSOP, 24-Leads, Body 7.8x4.4mm, Pitch 0.65mm, Thermal pad 5.02x3.25 mm, IPC Medium Density)
footprint RE-24_L (TSOP, 24-Leads, Body 7.8x4.4mm, Pitch 0.65mm, Thermal pad 5.02x3.25 mm, IPC High Density)
footprint RE-24_M (TSOP, 24-Leads, Body 7.8x4.4mm, Pitch 0.65mm, Thermal pad 5.02x3.25 mm, IPC Low Density)
pins: 1 AVSS (power) "Negative Analog Supply. Voltage ranges from -4.5 V to -16.5 V. This pin can be connected to 0 V if output ranges are unipolar.", 2 NC "Do not connect to these pins.", 3 VOUTA (out) "Analog Output Voltage of DAC A. The output amplifier is capable of directly driving a 2 k ohm, 4000 pF load.", 4 NC "Do not connect to these pins.", 5 BIN/~{2SCOMP} (in) "Determines the DAC coding for a bipolar output range. This pin should be hardwired to either DVCC or GND. When hardwired to DVCC, input coding is offset binary. When hardwired to GND, input coding is twos complement. (For (See Datasheet)", 6 NC "Do not connect to these pins.", 7 ~{SYNC} (in) "Active Low Input. This is the frame synchronization signal for the serial interface. While S\Y\N\C\ is low, data is transferred on the falling edge of SCLK. Data is latched on the rising edge of S\Y\N\C\.", 8 SCLK (in) "Serial Clock Input. Data is clocked into the shift register on the falling edge of SCLK. This operates at clock speeds up to 30 MHz.", 9 SDIN (in) "Serial Data Input. Data must be valid on the falling edge of SCLK.", 10 ~{LDAC} (in) "Load DAC, Logic Input. This is used to update the DAC registers and consequently, the analog outputs. When this pin is tied permanently low, the addressed DAC register is updated on the rising edge of S\Y\N\C\. If L\D\A\C\ (See Datasheet)", 11 ~{CLR} (in) "Active Low Input. Asserting this pin sets the DAC registers to zero-scale code or midscale code (user-selectable).", 12 NC "Do not connect to these pins.", 13 NC "Do not connect to these pins.", 14 DVCC (power) "Digital Supply. Voltage ranges from 2.7 V to 5.5 V.", 15 GND (power) "Ground Reference.", 16 SDO (out) "Serial Data Output. Used to clock data from the serial register in daisy-chain or readback mode. Data is clocked out on the rising edge of SCLK and is valid on the falling edge of SCLK.", 17 REFIN (in) "External Reference Voltage Input. Reference input range is 2 V to 3 V. REFIN = 2.5 V for specified performance.", 18 DAC_GND (power) "Ground Reference for the Four Digital-to-Analog Converters.", 19 DAC_GND (power) "Ground Reference for the Four Digital-to-Analog Converters.", 20 SIG_GND (power) "Ground Reference for the Four Output Amplifiers.", 21 SIG_GND (power) "Ground Reference for the Four Output Amplifiers.", 22 NC "Do not connect to these pins.", 23 VOUTB (out) "Analog Output Voltage of DAC C. The output amplifier is capable of directly driving a 2 k ohm, 4000 pF load.", 24 AVDD (power) "Positive Analog Supply. Voltage ranges from 4.5 V to 16.5 V.", 25 EP "This exposed paddle should be connected to the potential of the AVSS pin, or alternatively, it can be left electrically unconnected. It is recommended that the paddle be thermally connected to a copper plane for enhanced (See Datasheet)"